# Altium footprint library RAM.PcbLib: 2 footprints
Each footprint in its own frame and in the unit in brackets; x right, y up, seen from the top. Pads: shape width x height; smd on the part's side, far side on the other; paste and mask are expansions set on the pad; w line width, h text height; cw(c..) or ccw(c..) is an arc to the next point about the centre after c.
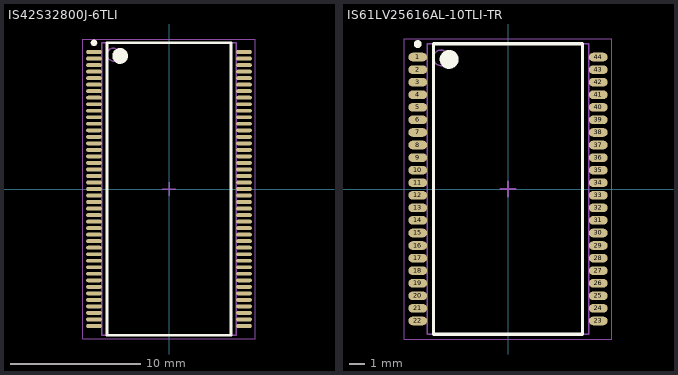
[diagram p0: the footprints below, top view; thin cyan lines are the x and y axes]

## IS42S32800J-6TLI [mm] "TSSOP, 86-Leads, Body 22.22x10.16mm, Pitch 0.50mm, IPC Medium Density"
height 1.2
pads (86):
  oval 1.2x0.3 smd: 1(-5.75,10.5) 2(-5.75,10) 3(-5.75,9.5) 4(-5.75,9) 5(-5.75,8.5) 6(-5.75,8) 7(-5.75,7.5) 8(-5.75,7) 9(-5.75,6.5) 10(-5.75,6) 11(-5.75,5.5) 12(-5.75,5) 13(-5.75,4.5) 14(-5.75,4) 15(-5.75,3.5) 16(-5.75,3) 17(-5.75,2.5) 18(-5.75,2) 19(-5.75,1.5) 20(-5.75,1) 21(-5.75,0.5) 22(-5.75,0) 23(-5.75,-0.5) 24(-5.75,-1) 25(-5.75,-1.5) 26(-5.75,-2) 27(-5.75,-2.5) 28(-5.75,-3) 29(-5.75,-3.5) 30(-5.75,-4) 31(-5.75,-4.5) 32(-5.75,-5) 33(-5.75,-5.5) 34(-5.75,-6) 35(-5.75,-6.5) 36(-5.75,-7) 37(-5.75,-7.5) 38(-5.75,-8) 39(-5.75,-8.5) 40(-5.75,-9) 41(-5.75,-9.5) 42(-5.75,-10) 43(-5.75,-10.5) 44(5.75,-10.5) 45(5.75,-10) 46(5.75,-9.5) 47(5.75,-9) 48(5.75,-8.5) 49(5.75,-8) 50(5.75,-7.5) 51(5.75,-7) 52(5.75,-6.5) 53(5.75,-6) 54(5.75,-5.5) 55(5.75,-5) 56(5.75,-4.5) 57(5.75,-4) 58(5.75,-3.5) 59(5.75,-3) 60(5.75,-2.5) 61(5.75,-2) 62(5.75,-1.5) 63(5.75,-1) 64(5.75,-0.5) 65(5.75,0) 66(5.75,0.5) 67(5.75,1) 68(5.75,1.5) 69(5.75,2) 70(5.75,2.5) 71(5.75,3) 72(5.75,3.5) 73(5.75,4) 74(5.75,4.5) 75(5.75,5) 76(5.75,5.5) 77(5.75,6) 78(5.75,6.5) 79(5.75,7) 80(5.75,7.5) 81(5.75,8) 82(5.75,8.5) 83(5.75,9) 84(5.75,9.5) 85(5.75,10) 86(5.75,10.5)
Top Overlay:
  circle w0.6: c-3.75,10.2 r0.3
  circle w0.25: c-5.75,11.2 r0.125
  lines w0.2: -4.75,-11.2 4.75,-11.2 4.75,11.2 -4.75,11.2 -4.75,-11.2
Mechanical 13:
  circle w0.1: c-4.25,10.3 r0.5
  lines w0.1: -5.15,-11.2 5.15,-11.2 5.15,11.2 -5.15,11.2 -5.15,-11.2
Mechanical 15:
  lines w0.05: -6.6,-11.5 6.6,-11.5 6.6,11.5 -6.6,11.5 -6.6,-11.5
  lines w0.1: -0.5,0 0.5,0 ; 0,-0.5 0,0.5
3D body "TSSOP50P1180X120-86N.step": height 1.2, standoff 0, extent -5.88,-11.2 5.88,11.2

## IS61LV25616AL-10TLI-TR [mm] "TSOP, 44-Leads, Body 18.41x10.16mm, Pitch 0.80mm, IPC Medium Density"
height 1.2
pads (44):
  oval 1.2x0.55 smd: 1(-5.75,8.4) 2(-5.75,7.6) 3(-5.75,6.8) 4(-5.75,6) 5(-5.75,5.2) 6(-5.75,4.4) 7(-5.75,3.6) 8(-5.75,2.8) 9(-5.75,2) 10(-5.75,1.2) 11(-5.75,0.4) 12(-5.75,-0.4) 13(-5.75,-1.2) 14(-5.75,-2) 15(-5.75,-2.8) 16(-5.75,-3.6) 17(-5.75,-4.4) 18(-5.75,-5.2) 19(-5.75,-6) 20(-5.75,-6.8) 21(-5.75,-7.6) 22(-5.75,-8.4) 23(5.75,-8.4) 24(5.75,-7.6) 25(5.75,-6.8) 26(5.75,-6) 27(5.75,-5.2) 28(5.75,-4.4) 29(5.75,-3.6) 30(5.75,-2.8) 31(5.75,-2) 32(5.75,-1.2) 33(5.75,-0.4) 34(5.75,0.4) 35(5.75,1.2) 36(5.75,2) 37(5.75,2.8) 38(5.75,3.6) 39(5.75,4.4) 40(5.75,5.2) 41(5.75,6) 42(5.75,6.8) 43(5.75,7.6) 44(5.75,8.4)
Top Overlay:
  circle w0.25: c-5.75,9.225 r0.125
  circle w0.6: c-3.75,8.25 r0.3
  lines w0.2: -4.75,-9.25 -4.75,9.25 4.75,9.25 4.75,-9.25 -4.75,-9.25
Top Designator:
  text ".Designator" at -5.998,-0.4 h1.2
Mechanical 13:
  circle w0.1: c-4.25,8.35 r0.5
  lines w0.1: -5.15,-9.25 -5.15,9.25 5.15,9.25 5.15,-9.25 -5.15,-9.25
Mechanical 15:
  lines w0.05: -6.6,-9.55 -6.6,9.55 6.6,9.55 6.6,-9.55 -6.6,-9.55
  lines w0.1: -0.5,0 0.5,0 ; 0,-0.5 0,0.5
3D body "TSOP80P1180X120-44N.step": height 1.2, standoff 0, extent -5.88,-9.25 5.88,9.25